# Altium footprint library 各类插件.PcbLib: 43 footprints (part 1 of 3)
Each footprint in its own frame and in the unit in brackets; x right, y up, seen from the top. Pads: shape width x height; smd on the part's side, far side on the other; paste and mask are expansions set on the pad; w line width, h text height; cw(c..) or ccw(c..) is an arc to the next point about the centre after c.
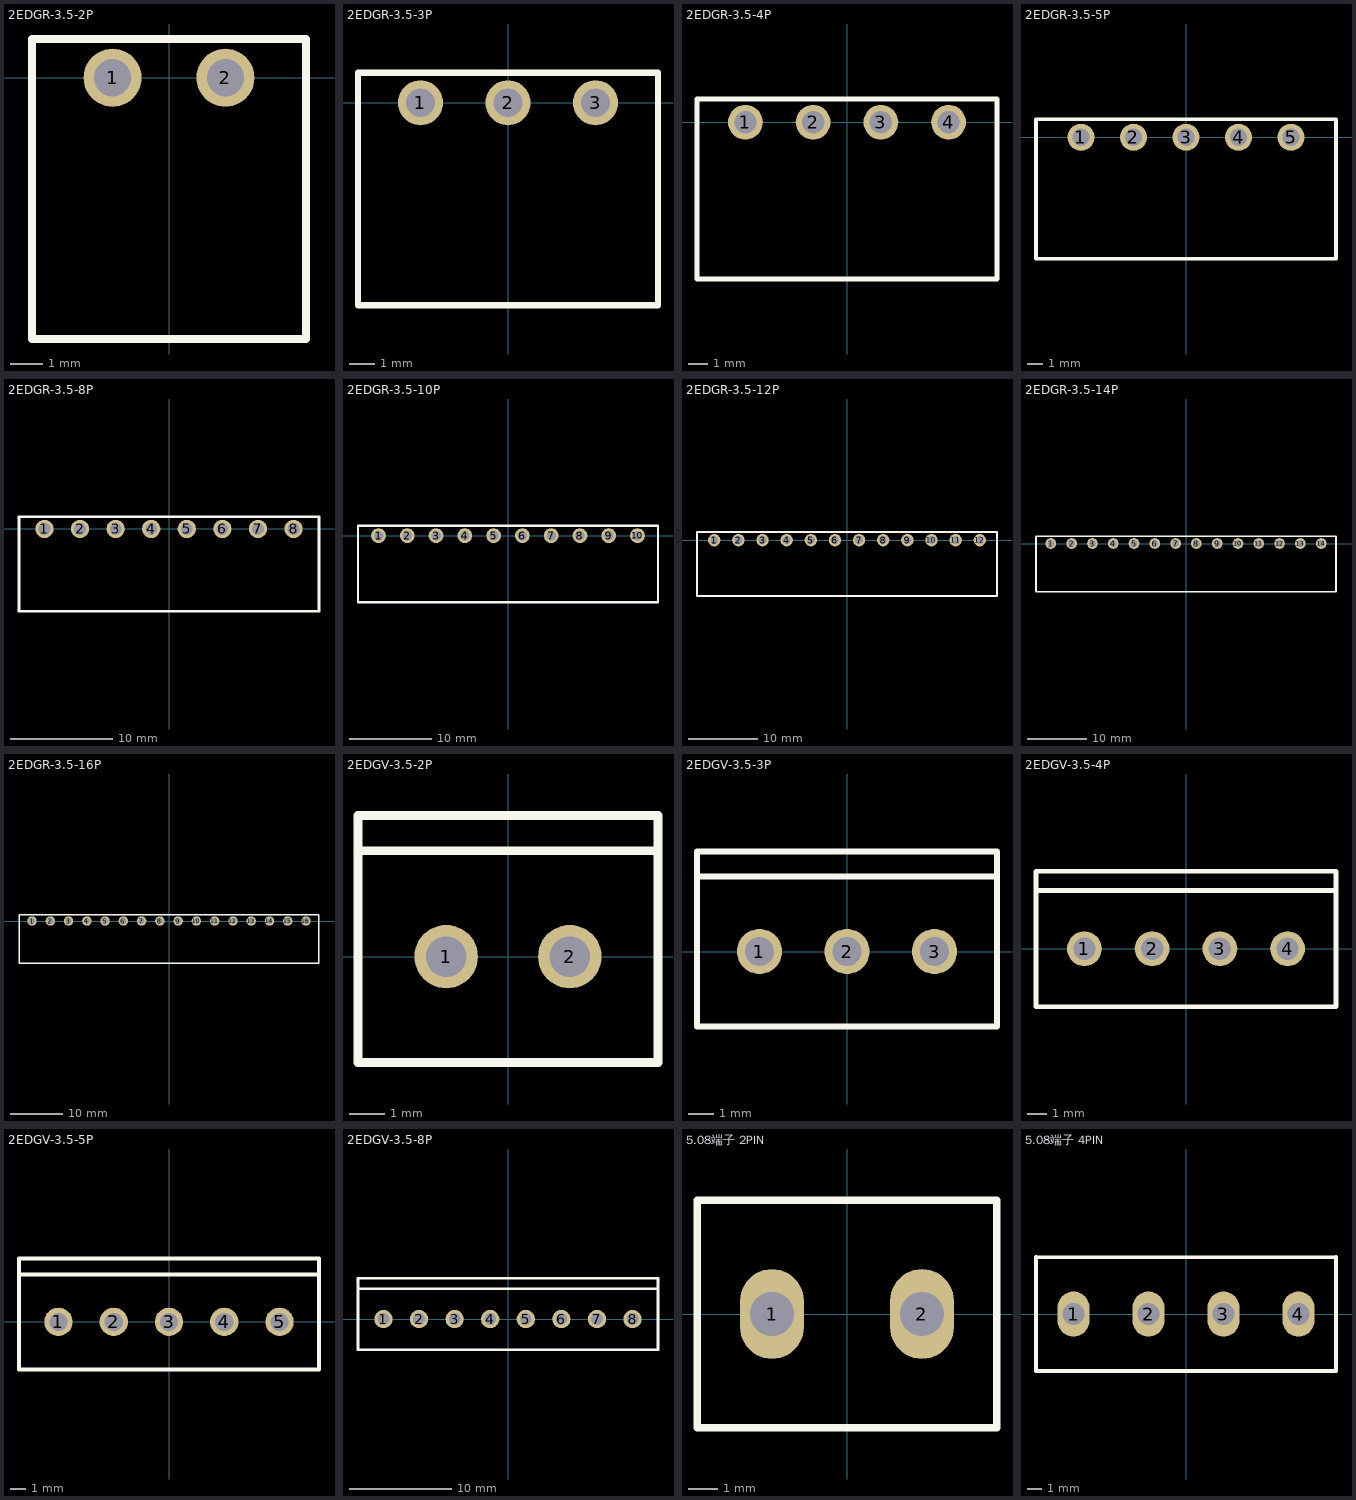
[diagram p0: the footprints below, top view; thin cyan lines are the x and y axes]

## 2EDGR-3.5-2P [mm]
pads (2):
  round 1.8 hole 1.15: 1(-1.75,0) 2(1.75,0)
Top Overlay:
  lines w0.254: -4.25,-8.1 -4.25,1.2 4.25,1.2 4.25,-8.1 -4.25,-8.1

## 2EDGR-3.5-3P [mm]
pads (3):
  round 1.8 hole 1.15: 1(-3.5,0) 2(0,0) 3(3.5,0)
Top Overlay:
  lines w0.254: -6,-8.1 -6,1.2 6,1.2 6,-8.1 -6,-8.1

## 2EDGR-3.5-4P [mm]
pads (4):
  round 1.8 hole 1.15: 1(-5.25,0) 2(-1.75,0) 3(1.75,0) 4(5.25,0)
Top Overlay:
  lines w0.254: -7.75,-8.1 7.75,-8.1 7.75,1.2 -7.75,1.2 -7.75,-8.1

## 2EDGR-3.5-5P [mm]
pads (5):
  round 1.8 hole 1.15: 1(-7,0) 2(-3.5,0) 3(0,0) 4(3.5,0) 5(7,0)
Top Overlay:
  lines w0.254: -10,-8.1 10,-8.1 10,1.2 -10,1.2 -10,-8.1

## 2EDGR-3.5-8P [mm]
pads (8):
  round 1.8 hole 1.15: 1(-12.25,0) 2(-8.75,0) 3(-5.25,0) 4(-1.75,0) 5(1.75,0) 6(5.25,0) 7(8.75,0) 8(12.25,0)
Top Overlay:
  lines w0.254: -14.75,-8.1 -14.75,1.2 14.75,1.2 14.75,-8.1 -14.75,-8.1

## 2EDGR-3.5-10P [mm]
pads (10):
  round 1.8 hole 1.15: 1(-15.75,0) 2(-12.25,0) 3(-8.75,0) 4(-5.25,0) 5(-1.75,0) 6(1.75,0) 7(5.25,0) 8(8.75,0) 9(12.25,0) 10(15.75,0)
Top Overlay:
  lines w0.254: -18.25,-8.1 -18.25,1.2 18.25,1.2 18.25,-8.1 -18.25,-8.1

## 2EDGR-3.5-12P [mm]
pads (12):
  round 1.8 hole 1.15: 1(-19.25,0) 2(-15.75,0) 3(-12.25,0) 4(-8.75,0) 5(-5.25,0) 6(-1.75,0) 7(1.75,0) 8(5.25,0) 9(8.75,0) 10(12.25,0) 11(15.75,0) 12(19.25,0)
Top Overlay:
  lines w0.254: -21.75,-8.1 21.75,-8.1 21.75,1.2 -21.75,1.2 -21.75,-8.1

## 2EDGR-3.5-14P [mm]
pads (14):
  round 1.8 hole 1.15: 1(-22.75,0) 2(-19.25,0) 3(-15.75,0) 4(-12.25,0) 5(-8.75,0) 6(-5.25,0) 7(-1.75,0) 8(1.75,0) 9(5.25,0) 10(8.75,0) 11(12.25,0) 12(15.75,0) 13(19.25,0) 14(22.75,0)
Top Overlay:
  lines w0.254: -25.25,-8.1 -25.25,1.2 25.25,1.2 25.25,-8.1 -25.25,-8.1

## 2EDGR-3.5-16P [mm]
pads (16):
  round 1.8 hole 1.15: 1(-26.25,0) 2(-22.75,0) 3(-19.25,0) 4(-15.75,0) 5(-12.25,0) 6(-8.75,0) 7(-5.25,0) 8(-1.75,0) 9(1.75,0) 10(5.25,0) 11(8.75,0) 12(12.25,0) 13(15.75,0) 14(19.25,0) 15(22.75,0) 16(26.25,0)
Top Overlay:
  lines w0.254: -28.75,-8.1 -28.75,1.2 28.75,1.2 28.75,-8.1 -28.75,-8.1

## 2EDGV-3.5-2P [mm]
pads (2):
  round 1.8 hole 1.15: 1(-1.75,0) 2(1.75,0)
Top Overlay:
  lines w0.254: -4.25,3 4.25,3 ; -4.25,-3 -4.25,4 4.25,4 4.25,-3 -4.25,-3

## 2EDGV-3.5-3P [mm]
pads (3):
  round 1.8 hole 1.15: 1(-3.5,0) 2(0,0) 3(3.5,0)
Top Overlay:
  lines w0.254: -6,3 6,3 ; -6,-3 6,-3 6,4 -6,4 -6,-3

## 2EDGV-3.5-4P [mm]
pads (4):
  round 1.8 hole 1.15: 1(-5.25,0) 2(-1.75,0) 3(1.75,0) 4(5.25,0)
Top Overlay:
  lines w0.254: -7.75,3 7.75,3 ; -7.75,-3 -7.75,4 7.75,4 7.75,-3 -7.75,-3

## 2EDGV-3.5-5P [mm]
pads (5):
  round 1.8 hole 1.15: 1(-7,0) 2(-3.5,0) 3(0,0) 4(3.5,0) 5(7,0)
Top Overlay:
  lines w0.254: -9.5,3 -6,3 6,3 9.5,3 ; -9.5,-3 -9.5,4 -6,4 6,4 9.5,4 9.5,-3 6,-3 -6,-3 -9.5,-3

## 2EDGV-3.5-8P [mm]
pads (8):
  round 1.8 hole 1.15: 1(-12.25,0) 2(-8.75,0) 3(-5.25,0) 4(-1.75,0) 5(1.75,0) 6(5.25,0) 7(8.75,0) 8(12.25,0)
Top Overlay:
  lines w0.254: -14.75,3 -7.75,3 7.75,3 14.75,3 ; -14.75,-3 -7.75,-3 7.75,-3 14.75,-3 14.75,4 7.75,4 -7.75,4 -14.75,4 -14.75,-3

## 5.08端子 2PIN [mil]
height 346.46
pads (2):
  oval 85x120 hole 59.06: 1(-100,0) 2(100,0)
Top Overlay:
  lines w10: -200,-151.57 -200,151.57 200,151.57 200,-151.57 -200,-151.57

## 5.08端子 4PIN [mil]
height 346.46
pads (4):
  oval 85x120 hole 59.06: 1(-300,0) 2(-100,0) 3(100,0) 4(300,0)
Top Overlay:
  lines w10: -400,-151.57 400,-151.57 ; -400,-151.18 -400,151.97 ; -400,151.57 400,151.57 ; 400,-151.18 400,151.97